# Altium schematic symbol library OPA2349.Schlib: 1 symbol
Pins are listed as number, name and electrical type; pins without a type are passive.

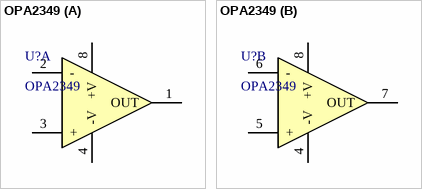
[diagram p0: symbol OPA2349]

## OPA2349
designator U?
part A pins: 1 OUT , 2 -, 3 +, 4 -V, 8 +V
part B pins: 4 -V, 5 +, 6 -, 7 OUT , 8 +V